# Altium footprint library miniUSB.PcbLib: 1 footprints
Each footprint in its own frame and in the unit in brackets; x right, y up, seen from the top. Pads: shape width x height; smd on the part's side, far side on the other; paste and mask are expansions set on the pad; w line width, h text height; cw(c..) or ccw(c..) is an arc to the next point about the centre after c.
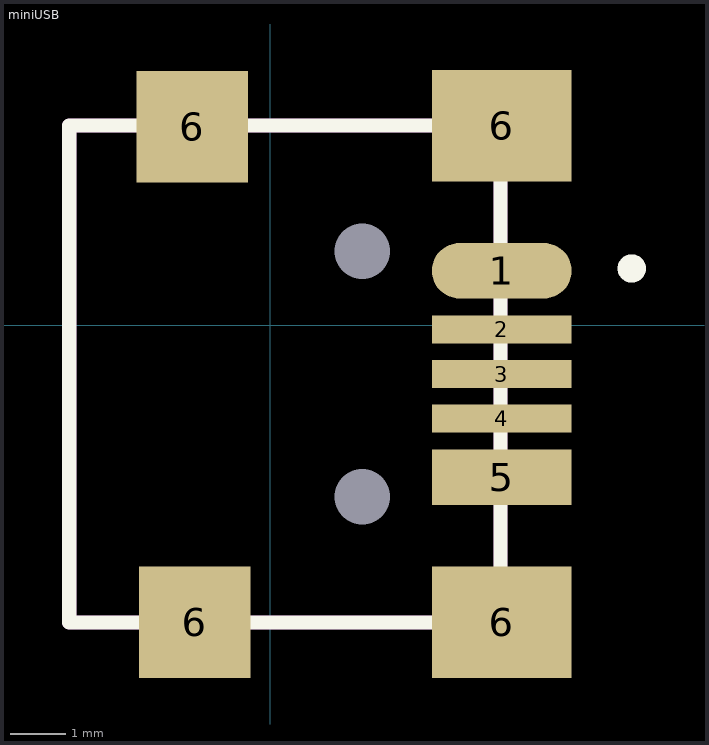
[diagram p0: the footprint, top view; thin cyan lines are the x and y axes]

## miniUSB [mm]
pads (11):
  oval 2.5x1 smd: 1(4.149,0.975)
  rect 2.5x0.5 smd: 2(4.149,-0.075) 3(4.149,-0.875) 4(4.149,-1.675)
  rect 2.5x1 smd: 5(4.149,-2.725)
  rect 2x2 smd: 6(-1.397,3.556) 6(-1.351,-5.325)
  rect 2.5x2 smd: 6(4.149,-5.325) 6(4.149,3.575)
  round 0 hole 1: ""(1.649,-3.075) ""(1.649,1.325)
Top Overlay:
  circle w0.254: c6.477,1.016 r0.127
Top Overlay keep-out:
  lines w0.254: -3.601,-4.553 -3.601,3.575 4.124,3.575 4.124,-5.325 -1.351,-5.325 -3.601,-5.325 -3.601,-4.275